# Altium footprint library DIO_BZG05C24-HM3-08.PcbLib: 1 footprints
Each footprint in its own frame and in the unit in brackets; x right, y up, seen from the top. Pads: shape width x height; smd on the part's side, far side on the other; paste and mask are expansions set on the pad; w line width, h text height; cw(c..) or ccw(c..) is an arc to the next point about the centre after c.
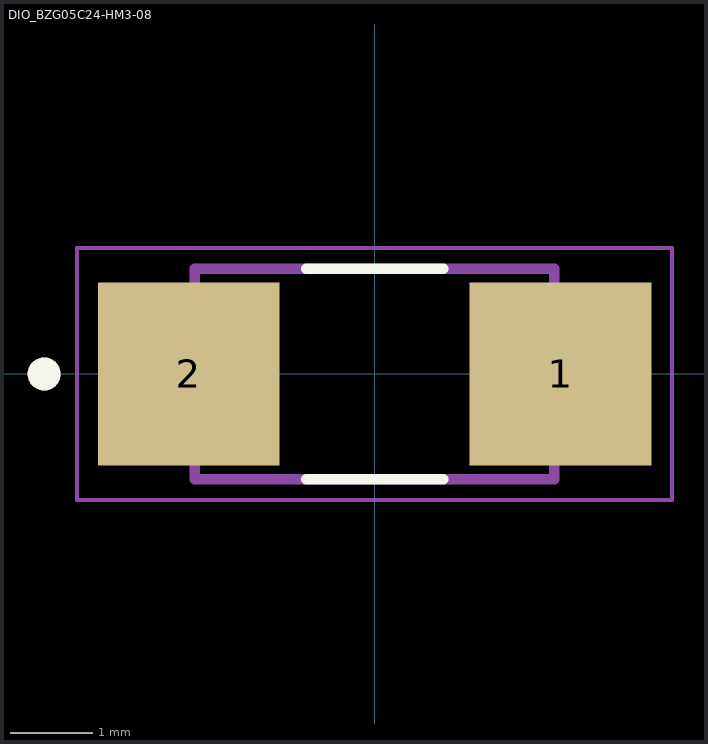
[diagram p0: the footprint, top view; thin cyan lines are the x and y axes]

## DIO_BZG05C24-HM3-08 [mm]
height 2.3
pads (2):
  rect 2.2x2.21 smd: 1(2.25,0) 2(-2.25,0)
Top Overlay:
  circle w0.2: c-4,0 r0.1
  lines w0.127: -0.83,-1.275 0.83,-1.275 ; -0.83,1.275 0.83,1.275
Assembly Top:
  circle w0.2: c-4,0 r0.1
  lines w0.127: -2.175,-1.275 -2.175,1.275 2.175,1.275 2.175,-1.275 -2.175,-1.275
Top Courtyard:
  lines w0.05: -3.6,-1.525 -3.6,1.525 3.6,1.525 3.6,-1.525 -3.6,-1.525